# EAGLE library part TSW-103-XX-XXX-D-RA (library samtec)
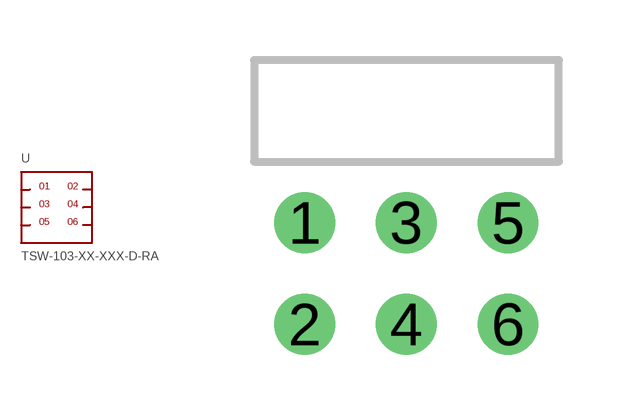
[diagram p1: symbol with the pads of TSW-103-XX-XXX-D-RA; footprint TSW-103-XX-XXX-D-RA]

Designator prefix -

## TSW-103-XX-XXX-D-RA  [TSW-103-XX-XXX-D-RA]
1  1
2  2
3  3
4  4
5  5
6  6

## Footprint TSW-103-XX-XXX-D-RA (pad centres in mm)
drill 1.016 pad 1.524: 1 -2.54,1.27; 2 -2.54,-1.27; 3 0,1.27; 4 0,-1.27; 5 2.54,1.27; 6 2.54,-1.27